# EAGLE library part ESPRESSIF_ESP32C3 (library aardvark-v0.01)
ESPRESSIF ESP32 C3 M1 module from AI Thinker
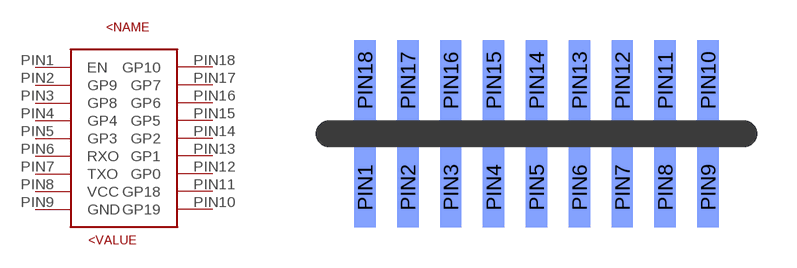
[diagram p0: symbol with the pads of ESPRESSIF_ESP32-C3-01M; footprint ESPRESSIF_ESP32-C3-01M]

Designator prefix MOD

## ESPRESSIF_ESP32C3  [ESPRESSIF_ESP32-C3-01M]
PIN1  EN  in
PIN2  GP9
PIN3  GP8
PIN4  GP4
PIN5  GP3
PIN6  RXO
PIN7  TXO
PIN8  VCC  pwr
PIN9  GND  pwr
PIN10  GP19
PIN11  GP18
PIN12  GP0
PIN13  GP1
PIN14  GP2
PIN15  GP5
PIN16  GP6
PIN17  GP7
PIN18  GP10

## Footprint ESPRESSIF_ESP32-C3-01M (pad centres in mm)
smd 0.8 x 3 bottom: PIN1 -6.4,-2; PIN2 -4.8,-2; PIN3 -3.2,-2; PIN4 -1.6,-2; PIN5 0,-2; PIN6 1.6,-2; PIN7 3.2,-2; PIN8 4.8,-2; PIN9 6.4,-2; PIN10 6.4,2; PIN11 4.8,2; PIN12 3.2,2; PIN13 1.6,2; PIN14 0,2; PIN15 -1.6,2; PIN16 -3.2,2; PIN17 -4.8,2; PIN18 -6.4,2
hole 0.9 at -7.75,0
hole 0.9 at 7.75,0